# EAGLE library part AD7997 (library AD7997)
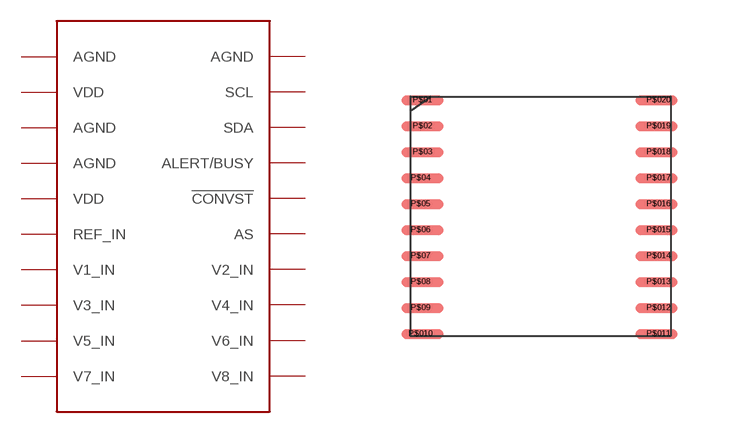
[diagram p0: symbol with the pads of AD7997; footprint AD7997]

Designator prefix -

## AD7997  [AD7997]
P$01  AGND
P$02  VDD
P$03  AGND
P$04  AGND
P$05  VDD
P$06  REF_IN
P$07  V1_IN
P$08  V3_IN
P$09  V5_IN
P$010  V7_IN
P$011  V8_IN
P$012  V6_IN
P$013  V4_IN
P$014  V2_IN
P$015  AS
P$016  !CONVST
P$017  ALERT/BUSY
P$018  SDA
P$019  SCL
P$020  AGND

## Footprint AD7997 (pad centres in mm)
smd 0.6 x 0.2: P$01 -1.7,2.925; P$02 -1.7,2.275; P$03 -1.7,1.625; P$04 -1.75,0.975; P$05 -1.75,0.325; P$06 -1.75,-0.325; P$07 -1.75,-0.975; P$08 -1.75,-1.625; P$09 -1.75,-2.275; P$010 -1.75,-2.925; P$011 4.2,-2.925; P$012 4.2,-2.275; P$013 4.2,-1.625; P$014 4.2,-0.975; P$015 4.2,-0.325; P$016 4.2,0.325; P$017 4.2,0.975; P$018 4.2,1.625; P$019 4.2,2.275; P$020 4.2,2.925